# Altium schematic symbol library 67997-106HLF.SchLib: 1 symbol
Pins are listed as number, name and electrical type; pins without a type are passive.

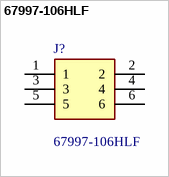
[diagram p0: symbol 67997-106HLF]

## 67997-106HLF
designator J?
BergStik, Board to Board connector, Unshrouded vertical header, Through Hole, Double Row, 6 Positions, 2.54 mm (0.100in) Pitch; Manufacturer_Name: Amphenol Communication Solutions; Geometry.Height: 8.38mm; Manufacturer_Part_Number: 67997-106HLF; Mouser Part Number: 649-67997-106HLF; Mouser Price/Stock: https://www.mouser.co.uk/ProductDetail/Amphenol-FCI/67997-106HLF?qs=zh4O8xspOuyE7IwD3CxQ4w%3D%3D; Arrow Part Number: 67997-106HLF; Arrow Price/Stock: https://www.arrow.com/en/products/67997-106hlf/amphenol-fci?region=nac; Mouser Testing Part Number: *; Mouser Testing Price/Stock: *; Datasheet Link: https://cdn.amphenol-cs.com/media/wysiwyg/files/drawing/67996.pdf
footprint HDRV6W67P254_2X3_762X483X838P
pins: 1, 2, 3, 4, 5, 6